# Altium footprint library 开关.PcbLib: 18 footprints (part 1 of 2)
Each footprint in its own frame and in the unit in brackets; x right, y up, seen from the top. Pads: shape width x height; smd on the part's side, far side on the other; paste and mask are expansions set on the pad; w line width, h text height; cw(c..) or ccw(c..) is an arc to the next point about the centre after c.
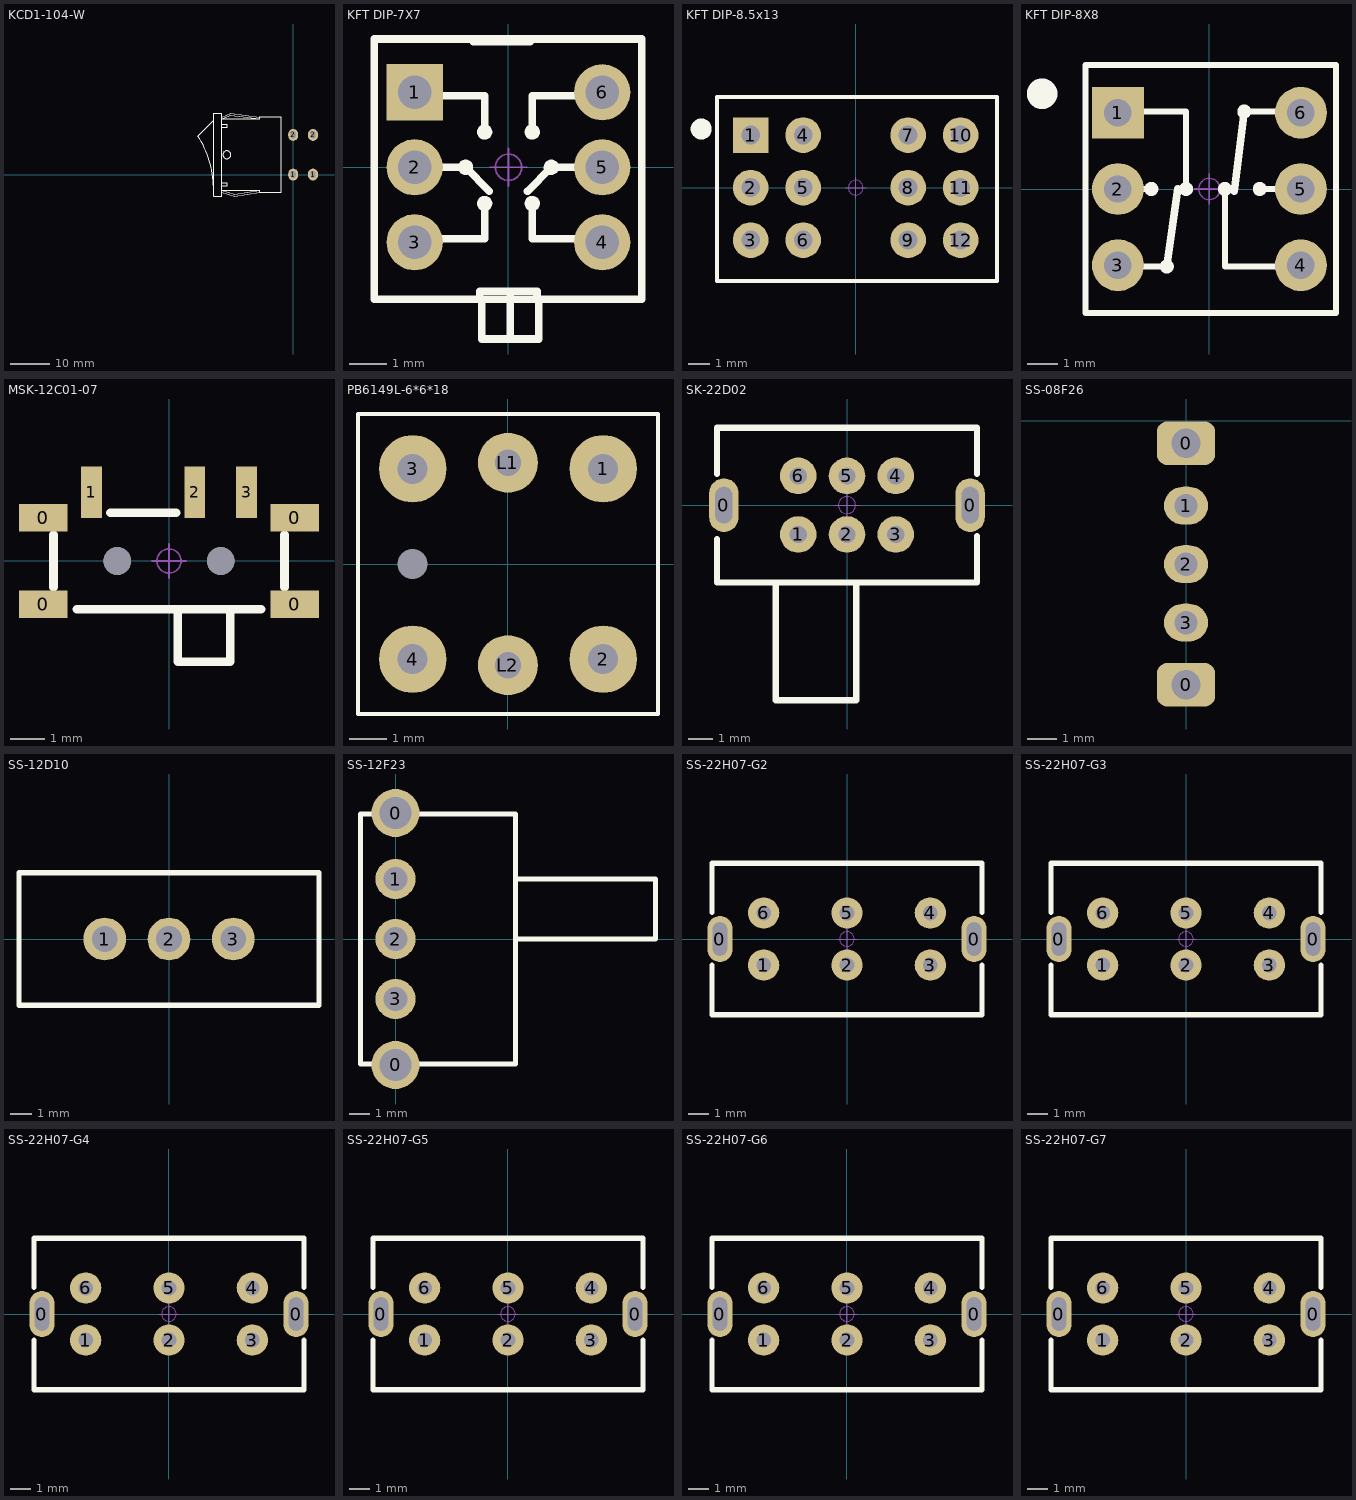
[diagram p0: the footprints below, top view; thin cyan lines are the x and y axes]

## KCD1-104-W [mm] "船型开关-卧式"
pads (4):
  oval 2.5x3 hole 1.2 slot 1.7 at 90 deg mask+0: 1(0,0) 1(5,0) 2(0,10) 2(5,10)
Top Overlay:
  circle w0.1: c-16.7,5 r1
  lines w0.1: -20.041,-3.203 ccw(c-44.537,-3.63) -23.99,9.714 -19.994,13.71 ; -18,-4.5 -14.7,-5.5 -8.4,-4.5 ; -18,-4 -14.7,-5 -8.4,-4 ; -17.985,-4 -8.4,-4 ; -17.984,14.498 -15.684,15.498 -8.4,14.498 ; -17.972,-2.794 -16.575,-2.794 -16.575,-2.007 -17.972,-2.007 ; -17.972,11.862 -16.575,11.862 -16.575,12.649 -17.972,12.649 ; -8.4,13.995 -8.4,14.503 ; -8.4,14.5 -3,14.5 -3,-4.5 -8.4,-4.5 ; -8.4,-4.5 -8.4,-4 ; -20,-5.5 -20,15.5 -18,15.5 -18,-5.5 -20,-5.5 ; -17.984,13.998 -15.684,14.998 -8.4,13.998 -17.984,13.998
3D body "KCD1-104.STEP": height 15.1, standoff -3.35, extent -24.2,-5.951 5.4,15.951

## KFT DIP-7X7 [mm] "自锁开关，规格：7*7mm"
pads (6):
  rect 1.5x1.5 hole 0.9: 1(-2.5,2)
  round 1.5 hole 0.9: 2(-2.5,0) 3(-2.5,-2) 4(2.5,-2) 5(2.5,0) 6(2.5,2)
Top Overlay:
  circle w0.254: c-1.143,0 r0.076
  circle w0.254: c1.143,0 r0.076
  circle w0.254: c-0.635,-0.965 r0.076
  circle w0.254: c0.635,-0.965 r0.076
  circle w0.254: c-0.635,0.94 r0.076
  circle w0.254: c0.635,0.94 r0.076
  lines w0.203: -2.54,-1.905 -1.524,-1.905 -0.635,-1.905 -0.635,-0.889 ; -2.54,0 -1.143,0 -0.508,-0.635 ; -2.54,1.905 -0.635,1.905 -0.635,1.016 ; -0.94,3.344 0.584,3.344 ; -0.762,-3.514 -0.762,-3.309 0.762,-3.309 0.762,-3.514 ; -0.712,-3.563 -0.712,-4.579 0.812,-4.579 0.812,-3.563 ; 0.05,-4.579 0.05,-3.436 ; 0.508,-0.635 1.143,0 2.54,0 ; 0.635,-0.889 0.635,-1.905 2.54,-1.905 ; 0.635,1.016 0.635,1.905 2.54,1.905 ; -3.581,-3.514 2.54,-3.514 3.556,-3.514 3.556,3.42 -3.581,3.42 -3.581,-3.514
Mechanical 15:
  circle w0.05: c0,0 r0.35
  lines w0.05: -0.5,0 0.5,0 ; 0,-0.5 0,0.5
3D body "SLSW 7x7.STEP": height 11.2, standoff -3.2, extent -3.5,-3.5 3.5,3.5

## KFT DIP-8.5x13 [mm] "自锁开关，规格：8.5*13mm"
pads (12):
  rect 1.7x1.7 hole 0.9: 1(-5,2.5)
  round 1.7 hole 0.9: 2(-5,0) 3(-5,-2.5) 4(-2.5,2.5) 5(-2.5,0) 6(-2.5,-2.5) 7(2.5,2.5) 8(2.5,0) 9(2.5,-2.5) 10(5,2.5) 11(5,0) 12(5,-2.5)
Top Overlay:
  circle w0.6: c-7.359,2.794 r0.2
  lines w0.2: -6.604,-4.445 -6.604,4.318 6.731,4.318 6.731,-4.445 -6.604,-4.445
Mechanical 15:
  circle w0.05: c0,0 r0.35
  lines w0.05: -0.5,0 0.5,0 ; 0,-0.5 0,0.5
3D body "SLSW 8.5x13.STEP": height 14, standoff -3.2, extent -6.449,-4.301 6.551,4.199

## KFT DIP-8X8 [mm] "自锁开关，规格：8*8mm"
pads (6):
  rect 1.7x1.7 hole 0.9: 1(-3,2.5)
  round 1.7 hole 0.9: 2(-3,0) 3(-3,-2.5) 4(3,-2.5) 5(3,0) 6(3,2.5)
Top Overlay:
  circle w0.6: c-5.486,3.124 r0.2
  circle w0.254: c-0.762,0 r0.102
  circle w0.254: c0.508,0 r0.102
  circle w0.254: c-1.397,-2.54 r0.102
  circle w0.254: c-1.905,0 r0.102
  circle w0.254: c1.651,0 r0.102
  circle w0.254: c1.143,2.54 r0.102
  lines w0.2: -4.064,-4.064 4.153,-4.064 4.153,4.064 -4.064,4.064 -4.064,-4.064
  lines w0.203: -3.048,-2.54 -1.397,-2.54 ; -3.048,0 -1.771,0 ; -3.048,2.54 -0.762,2.54 -0.762,0 ; 0.508,0 0.508,-2.54 2.794,-2.54 ; 1.143,2.54 2.794,2.54 ; 1.6,0 2.794,0
  lines w0.254: -1.397,-2.54 -1.041,0 ; 0.813,-0.076 1.143,2.54
Mechanical 15:
  circle w0.05: c0,0 r0.35
  lines w0.05: -0.5,0 0.5,0 ; 0,-0.5 0,0.5
3D body "SLSW 8x8.STEP": height 13.1, standoff -3.2, extent -3.949,-4.051 4.051,3.949

## MSK-12C01-07 [mm] "6.7*2.8*1.5mm(长宽高）"
pads (9):
  rect 1.4x0.8 smd: 0(-3.65,-1.25) 0(-3.65,1.25) 0(3.65,-1.25) 0(3.65,1.25)
  rect 0.6x1.5 smd: 1(-2.25,1.996) 2(0.75,1.996) 3(2.25,1.996)
  round 0.8 hole 0.8: " "(-1.5,0) " "(1.5,0)
Top Overlay:
  lines w0.254: -3.35,-0.762 -3.35,0.762 ; -2.667,-1.397 2.667,-1.397 ; -1.699,1.397 0.206,1.397 ; 0.254,-1.4 0.254,-2.921 1.778,-2.921 1.778,-1.4 ; 3.35,-0.762 3.35,0.762
Mechanical 15:
  circle w0.05: c0,0 r0.35
  lines w0.05: -0.5,0 0.5,0 ; 0,-0.5 0,0.5
3D body "MSK-12C01-07.STEP": height 1.5, standoff -0.5, extent -3.92,-2.9 3.92,2.4

## PB6149L-6*6*18 [mm] "6mm*6mm*18mm(长*宽*高)"
pads (7):
  round 1.8 hole 0.8: 1(2.54,2.54) 2(2.54,-2.54) 3(-2.54,2.54) 4(-2.54,-2.54)
  round 0 hole 0.8: 7(-2.54,0)
  round 1.6 hole 0.7: L1(0,2.7) L2(0,-2.7)
Top Overlay:
  lines w0.1: -4,-4 -4,4 4,4 4,-4 -4,-4
3D body "PB6149L-6X6X18.STEP": height 18.05, standoff -3.45, extent -4,-4 4,4

## SK-22D02 [mm] "10.4x6.1x4.2mm(长宽高)，脚距：2mm"
pads (8):
  oval 1.2x2.2 hole 0.7 slot 1.5 at 90 deg: 0(-5.05,0) 0(5.05,0)
  round 1.5 hole 0.7: 1(-2,-1.2) 2(0,-1.2) 3(2,-1.2) 4(2,1.2) 5(0,1.2) 6(-2,1.2)
Top Overlay:
  lines w0.25: -5.334,-1.397 -5.334,-3.175 5.334,-3.175 5.334,-1.27 ; -5.334,1.27 -5.334,3.175 5.334,3.175 5.334,1.27 ; -2.921,-3.175 -2.921,-8.001 0.381,-8.001 0.381,-3.175
Mechanical 15:
  circle w0.05: c0,0 r0.35
  lines w0.05: -0.5,0 0.5,0 ; 0,-0.5 0,0.5
3D body "SK-22D02.STEP": height 5.59, standoff -2.61, extent -5.266,-7.963 5.254,3.047

## SS-08F26 [mm] "拨动开关"
height 4
pads (5):
  rrect50% 2x1.5 hole 1: 0(0,-9.025) 0(0,-0.762)
  oval 1.5x1.3 hole 0.8: 1(0,-2.9) 2(0,-4.9) 3(0,-6.9)

## SS-12D10 [mm] "脚距3mm"
pads (3):
  round 2 hole 1.2: 1(-3,0) 2(0,0) 3(3,0)
Top Overlay:
  lines w0.254: -7,-3.1 -7,3.1 7,3.1 7,-3.1 -7,-3.1
3D body "SW-SLB12814.STEP": height 9.65, standoff -2.6, extent -7,-3.1 7,3.1

## SS-12F23 [mm] "脚距3mm"
pads (5):
  round 2.4 hole 1.6: 0(0,-6.3) 0(0,6.3)
  round 2 hole 1.2: 1(0,3) 2(0,0) 3(0,-3)
Top Overlay:
  lines w0.254: 6,0 13,0 13,3 6,3 ; -1.75,-6.25 0,-6.25 6,-6.25 6,6.25 0,6.25 -1.5,6.25 -1.75,6.25 -1.75,-6.25
3D body "User Library-SLIDE SWITCH SS12F23.STEP": height 5.75, standoff -3.35, extent -0.608,-6.523 12.292,6.477

## SS-22H07-G2 [mm] "柄长2mm，12.7x7x4.7mm(长宽高)，脚距：4mm"
pads (8):
  oval 1.2x2.2 hole 0.7 slot 1.6 at 90 deg: 0(-6.1,0) 0(6.1,0)
  round 1.5 hole 0.7: 1(-4,-1.25) 2(0,-1.25) 3(4,-1.25) 4(4,1.25) 5(0,1.25) 6(-4,1.25)
Top Overlay:
  lines w0.25: -6.477,-1.25 -6.477,-3.632 6.477,-3.632 6.477,-1.25 ; -6.477,1.27 -6.477,3.632 6.477,3.632 6.477,1.27
Mechanical 15:
  circle w0.05: c0,0 r0.35
  lines w0.05: -0.5,0 0.5,0 ; 0,-0.5 0,0.5
3D body "SS-22H07-G2.STEP": height 6.7, standoff -3.3, extent -6.351,-3.501 6.351,3.501

## SS-22H07-G3 [mm] "柄长3mm，12.7x7x4.7mm(长宽高)，脚距：4mm"
pads (8):
  oval 1.2x2.2 hole 0.7 slot 1.6 at 90 deg: 0(-6.1,0) 0(6.1,0)
  round 1.5 hole 0.7: 1(-4,-1.25) 2(0,-1.25) 3(4,-1.25) 4(4,1.25) 5(0,1.25) 6(-4,1.25)
Top Overlay:
  lines w0.25: -6.477,-1.25 -6.477,-3.632 6.477,-3.632 6.477,-1.25 ; -6.477,1.27 -6.477,3.632 6.477,3.632 6.477,1.27
Mechanical 15:
  circle w0.05: c0,0 r0.35
  lines w0.05: -0.5,0 0.5,0 ; 0,-0.5 0,0.5
3D body "SS-22H07-G3.STEP": height 7.7, standoff -3.3, extent -6.351,-3.501 6.351,3.501

## SS-22H07-G4 [mm] "柄长4mm，12.7x7x4.7mm(长宽高)，脚距：4mm"
pads (8):
  oval 1.2x2.2 hole 0.7 slot 1.6 at 90 deg: 0(-6.1,0) 0(6.1,0)
  round 1.5 hole 0.7: 1(-4,-1.25) 2(0,-1.25) 3(4,-1.25) 4(4,1.25) 5(0,1.25) 6(-4,1.25)
Top Overlay:
  lines w0.25: -6.477,-1.25 -6.477,-3.632 6.477,-3.632 6.477,-1.25 ; -6.477,1.27 -6.477,3.632 6.477,3.632 6.477,1.27
Mechanical 15:
  circle w0.05: c0,0 r0.35
  lines w0.05: -0.5,0 0.5,0 ; 0,-0.5 0,0.5
3D body "SS-22H07-G4.STEP": height 8.7, standoff -3.3, extent -6.351,-3.501 6.351,3.501

## SS-22H07-G5 [mm] "柄长5mm，12.7x7x4.7mm(长宽高)，脚距：4mm"
pads (8):
  oval 1.2x2.2 hole 0.7 slot 1.6 at 90 deg: 0(-6.1,0) 0(6.1,0)
  round 1.5 hole 0.7: 1(-4,-1.25) 2(0,-1.25) 3(4,-1.25) 4(4,1.25) 5(0,1.25) 6(-4,1.25)
Top Overlay:
  lines w0.25: -6.477,-1.25 -6.477,-3.632 6.477,-3.632 6.477,-1.25 ; -6.477,1.27 -6.477,3.632 6.477,3.632 6.477,1.27
Mechanical 15:
  circle w0.05: c0,0 r0.35
  lines w0.05: -0.5,0 0.5,0 ; 0,-0.5 0,0.5
3D body "SS-22H07-G5.STEP": height 9.7, standoff -3.3, extent -6.351,-3.501 6.351,3.501

## SS-22H07-G6 [mm] "柄长6mm，12.7x7x4.7mm(长宽高)，脚距：4mm"
pads (8):
  oval 1.2x2.2 hole 0.7 slot 1.6 at 90 deg: 0(-6.1,0) 0(6.1,0)
  round 1.5 hole 0.7: 1(-4,-1.25) 2(0,-1.25) 3(4,-1.25) 4(4,1.25) 5(0,1.25) 6(-4,1.25)
Top Overlay:
  lines w0.25: -6.477,-1.25 -6.477,-3.632 6.477,-3.632 6.477,-1.25 ; -6.477,1.27 -6.477,3.632 6.477,3.632 6.477,1.27
Mechanical 15:
  circle w0.05: c0,0 r0.35
  lines w0.05: -0.5,0 0.5,0 ; 0,-0.5 0,0.5
3D body "SS-22H07-G6.STEP": height 10.7, standoff -3.3, extent -6.351,-3.501 6.351,3.501

## SS-22H07-G7 [mm] "柄长7mm，12.7x7x4.7mm(长宽高)，脚距：4mm"
pads (8):
  oval 1.2x2.2 hole 0.7 slot 1.6 at 90 deg: 0(-6.1,0) 0(6.1,0)
  round 1.5 hole 0.7: 1(-4,-1.25) 2(0,-1.25) 3(4,-1.25) 4(4,1.25) 5(0,1.25) 6(-4,1.25)
Top Overlay:
  lines w0.25: -6.477,-1.25 -6.477,-3.632 6.477,-3.632 6.477,-1.25 ; -6.477,1.27 -6.477,3.632 6.477,3.632 6.477,1.27
Mechanical 15:
  circle w0.05: c0,0 r0.35
  lines w0.05: -0.5,0 0.5,0 ; 0,-0.5 0,0.5
3D body "SS-22H07-G7.STEP": height 11.7, standoff -3.3, extent -6.351,-3.501 6.351,3.501